# EAGLE library part CMN2015-1 (library 0-chirimen)
CHIRIMEN CMN2015-1 Web Site <https://chirimen.org/>
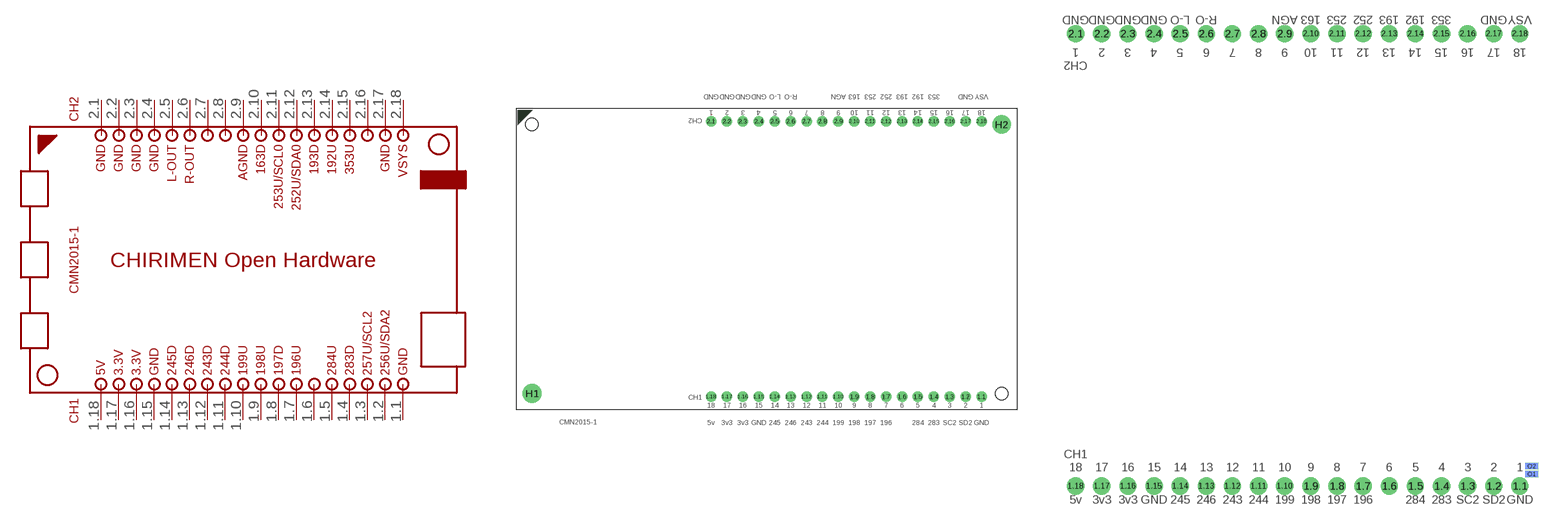
[diagram p0: symbol with the pads of CMN2015-1; footprints CMN2015-1, CHMN2015-1-SMALL]

Designator prefix -

## CMN2015-1NOMAL  [CMN2015-1]
1.1  CH1-1
1.2  CH1-2
1.3  CH1-3
1.4  CH1-4
1.5  CH1-5
1.6  CH1-6
1.7  CH1-7
1.8  CH1-8
1.9  CH1-9
1.10  CH1-10
1.11  CH1-11
1.12  CH1-12
1.13  CH1-13
1.14  CH1-14
1.15  CH1-15
1.16  CH1-16
1.17  CH1-17
1.18  CH1-18
2.1  CH2-1
2.2  CH2-2
2.3  CH2-3
2.4  CH2-4
2.5  CH2-5
2.6  CH2-6
2.7  CH2-7
2.8  CH2-8
2.9  CH2-9
2.10  CH2-10
2.11  CH2-11
2.12  CH2-12
2.13  CH2-13
2.14  CH2-14
2.15  CH2-15
2.16  CH2-16
2.17  CH2-17
2.18  CH2-18
H1  HOLE1
H2  HOLE2

## CMN2015-1SMALL  [CHMN2015-1-SMALL]
1.1  CH1-1
1.2  CH1-2
1.3  CH1-3
1.4  CH1-4
1.5  CH1-5
1.6  CH1-6
1.7  CH1-7
1.8  CH1-8
1.9  CH1-9
1.10  CH1-10
1.11  CH1-11
1.12  CH1-12
1.13  CH1-13
1.14  CH1-14
1.15  CH1-15
1.16  CH1-16
1.17  CH1-17
1.18  CH1-18
2.1  CH2-1
2.2  CH2-2
2.3  CH2-3
2.4  CH2-4
2.5  CH2-5
2.6  CH2-6
2.7  CH2-7
2.8  CH2-8
2.9  CH2-9
2.10  CH2-10
2.11  CH2-11
2.12  CH2-12
2.13  CH2-13
2.14  CH2-14
2.15  CH2-15
2.16  CH2-16
2.17  CH2-17
2.18  CH2-18
O1  HOLE1
O2  HOLE2

## Footprint CMN2015-1 (pad centres in mm)
drill 1.016 pad 1.676: 1.1 74.295,2; 1.2 71.755,2; 1.3 69.215,2; 1.4 66.675,2; 1.5 64.135,2; 1.6 61.595,2; 1.7 59.055,2; 1.8 56.515,2; 1.9 53.975,2; 1.10 51.435,2; 1.11 48.895,2; 1.12 46.355,2; 1.13 43.815,2; 1.14 41.275,2; 1.15 38.735,2; 1.16 36.195,2; 1.17 33.655,2; 1.18 31.115,2; 2.1 31.115,46; 2.2 33.655,46; 2.3 36.195,46; 2.4 38.735,46; 2.5 41.275,46; 2.6 43.815,46; 2.7 46.355,46; 2.8 48.895,46; 2.9 51.435,46; 2.10 53.975,46; 2.11 56.515,46; 2.12 59.055,46; 2.13 61.595,46; 2.14 64.135,46; 2.15 66.675,46; 2.16 69.215,46; 2.17 71.755,46; 2.18 74.295,46
drill 2 pad 3: H1 2.54,2.54; H2 77.5,45.5
hole 2 at 2.5,45.5
hole 2 at 77.5,2.5

## Footprint CHMN2015-1-SMALL (pad centres in mm)
drill 1.016 pad 1.676: 1.1 45.085,2; 1.2 42.545,2; 1.3 40.005,2; 1.4 37.465,2; 1.5 34.925,2; 1.6 32.385,2; 1.7 29.845,2; 1.8 27.305,2; 1.9 24.765,2; 1.10 22.225,2; 1.11 19.685,2; 1.12 17.145,2; 1.13 14.605,2; 1.14 12.065,2; 1.15 9.525,2; 1.16 6.985,2; 1.17 4.445,2; 1.18 1.905,2; 2.1 1.905,46; 2.2 4.445,46; 2.3 6.985,46; 2.4 9.525,46; 2.5 12.065,46; 2.6 14.605,46; 2.7 17.145,46; 2.8 19.685,46; 2.9 22.225,46; 2.10 24.765,46; 2.11 27.305,46; 2.12 29.845,46; 2.13 32.385,46; 2.14 34.925,46; 2.15 37.465,46; 2.16 40.005,46; 2.17 42.545,46; 2.18 45.085,46
smd 1.27 x 0.635 bottom: O1 46.228,3.175; O2 46.228,3.937